# Altium integrated library Linear Technology Power Management Switching Regulator LTC1174-LTC3901.IntLib: 2647 symbols (part 264 of 364)
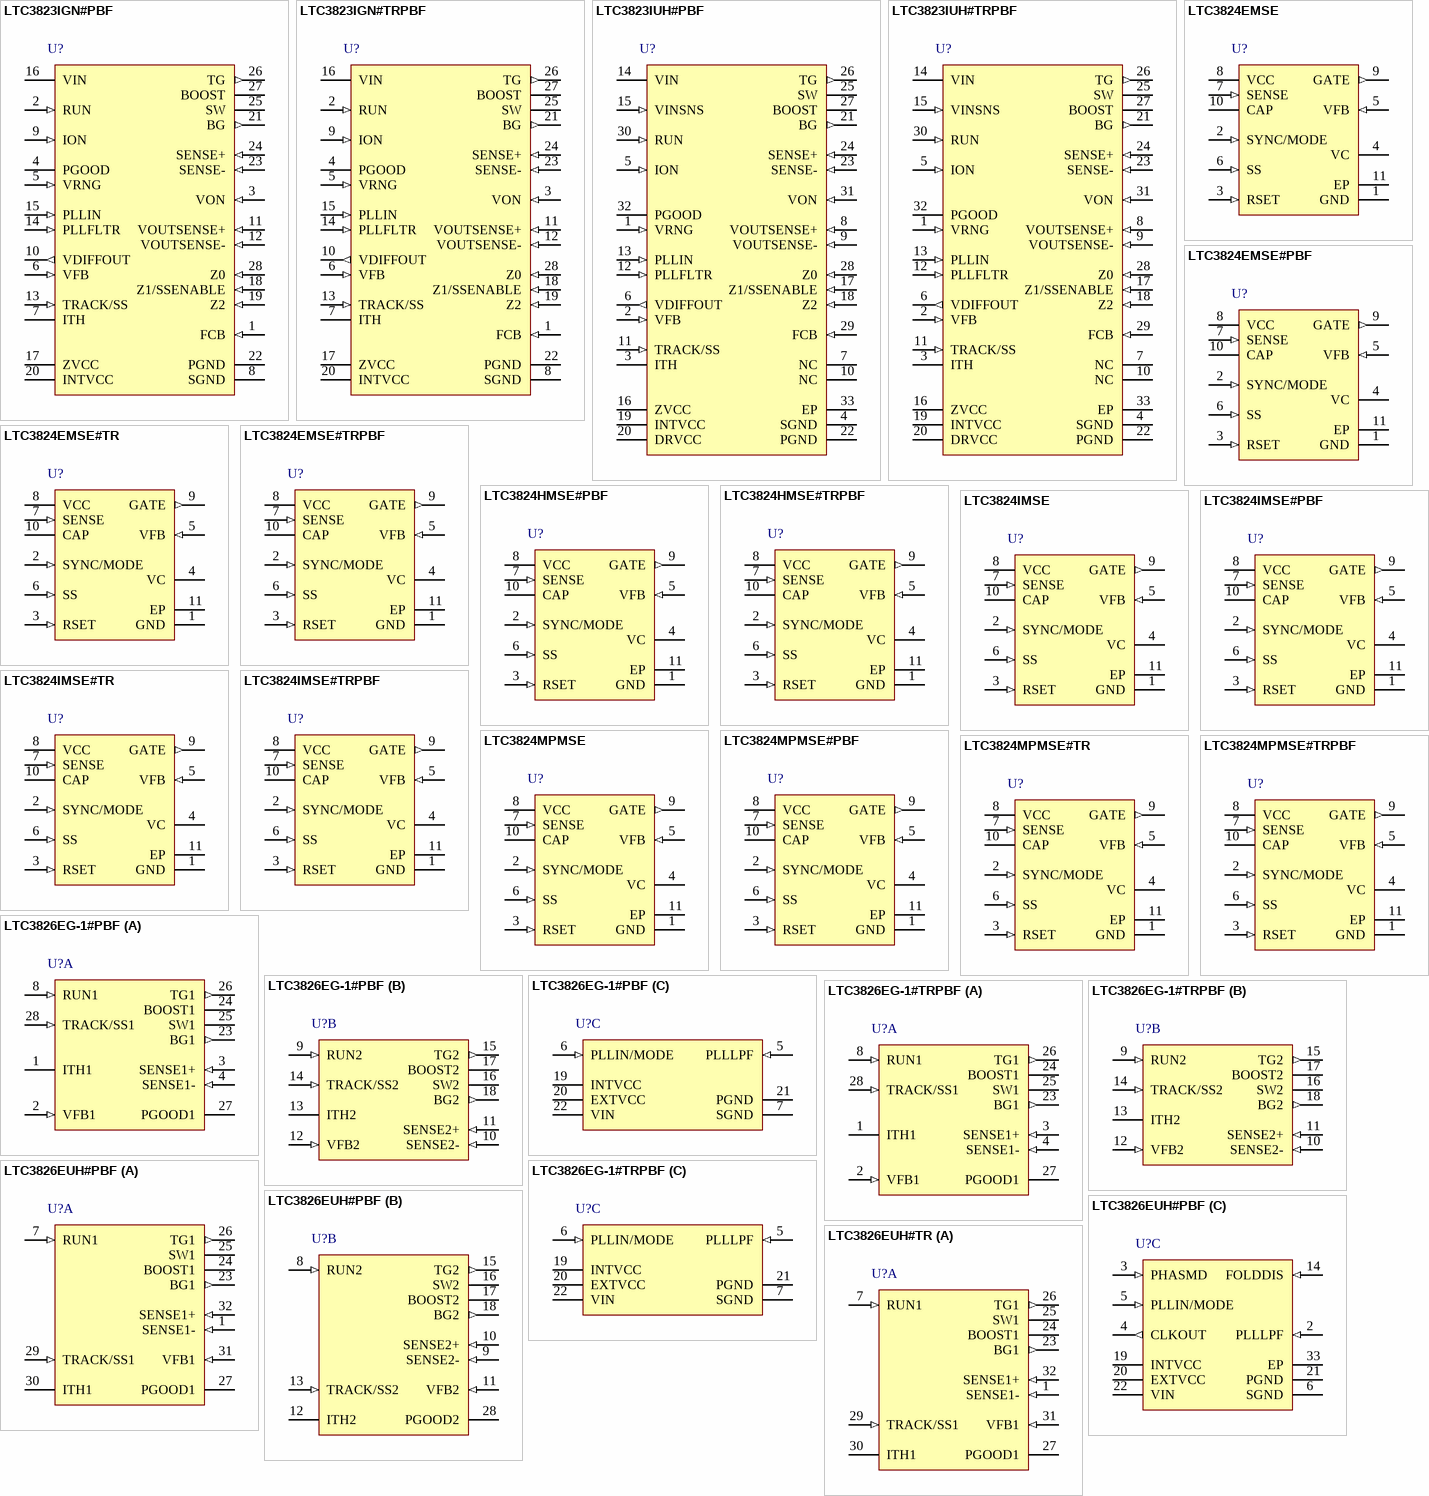
[diagram p351: symbols LTC3823IGN#PBF to LTC3826EUH#TR]

## LTC3824EMSE#TRPBF
designator U?
High Voltage Step-Down Controller with 40 uA Quiescent Current, 10-pin SOP (MSE-10-EDP), -40 to 125 degC, Pb-Free, Tape and Reel; Manufacturer: Linear Technology; PartNumber: LTC3824EMSE#TRPBF; Frequency Sync Range: 200kHz - 600kHz; Number of Outputs: 1; DatasheetVersion: Rev. G; PackageVersion: Rev. I, 05/2013; PackageReference: MSE-10; PackageDescription: 10-Pin Plastic MSOP, Exposed Die Pad, Body 3 x 3 mm, Pitch 0.5 mm; Supplier 1: Digi-Key; Supplier Part Number 1: LTC3824EMSE#TRPBFTR-ND; Supplier 2: Digi-Key; Supplier Part Number 2: LTC3824EMSE#TRPBFCT-ND; Supplier 3: Digi-Key; Supplier Part Number 3: LTC3824EMSE#TRPBFDKR-ND; Supplier 4: Newark; Supplier Part Number 4: 56M8527; Packing: Tape and Reel; RoHS: TRUE; Mounting Technology: Surface Mount; ComponentLink1Description: Manufacturer URL; ComponentLink1URL: http://www.linear.com/; ComponentLink2Description: Datasheet; ComponentLink2URL: http://cds.linear.com/docs/en/datasheet/3824fg.pdf; ComponentLink3Description: Package Specification; ComponentLink3URL: http://cds.linear.com/docs/en/packaging/05081664_I_MSE.pdf
footprint LT-MSE-10-EDP_N (SOP, 10-Leads, Body 3.1x3.1mm, Pitch 0.5mm, Thermal Pad 1.88x1.68mm, IPC Medium Density)
footprint LT-MSE-10-EDP_L (SOP, 10-Leads, Body 3.1x3.1mm, Pitch 0.5mm, Thermal Pad 1.88x1.68mm, IPC High Density)
footprint LT-MSE-10-EDP_M (SOP, 10-Leads, Body 3.1x3.1mm, Pitch 0.5mm, Thermal Pad 1.88x1.68mm, IPC Low Density)
pins: 1 GND (power) "Chip Ground Pin.", 2 SYNC/MODE (in) "Synchronization Input and Burst Mode Operation Enable/Disable. If this pin is left open or pulled higher than 2V, Burst Mode operation will be enabled at light load and the typical threshold of entering Burst Mode operation (See Datasheet)", 3 RSET (in) "A resistor from RSET to ground sets the LTC3824 switching frequency.", 4 VC "The Output of the voltage error amplifier gm and the control signal of the current mode PWM control loop. Switching starts at 0.7V, and higher VC corresponds to higher inductor current. When VC is pulled below 25mV, the (See Datasheet)", 5 VFB (in) "Error Amplifier Inverting Input. A resistor divider to this pin sets the output voltage. When VFB is less than 0.5V, the switching frequency will fold back to 50kHz to reduce the minimum on-cycle.", 6 SS (in) "Soft-Start Pin. A capacitor on this pin sets the output ramp-up rate. The typical time for SS to reach the programmed level is (C • 0.8V)/5uA.", 7 SENSE (in) "Current Sense Input Pin. A sense resistor, RS, from VIN to SENSE sets the current limit to 100mV/RS.", 8 VCC (power) "Chip Power Supply. Power supply bypassing is required.", 9 GATE (out) "Gate Drive for The External P-channel MOSFET. Typical peak drive current is 2.5A and the drive voltage is clamped to 8V when VCC is higher than 9V.", 10 CAP "A Low ESR Capacitor of at Least 0.1uF is required from this pin to VCC to bypass the internal regulator for biasing the gate driver circuitry.", 11 EP (power) "Ground. Must be soldered to PCB with expanded metal trace for rated thermal performance."

## LTC3824HMSE#PBF
designator U?
High Voltage Step-Down Controller with 40 uA Quiescent Current, 10-pin SOP (MSE-10-EDP), -40 to 150 degC, Pb-Free; Manufacturer: Linear Technology; PartNumber: LTC3824HMSE#PBF; Frequency Sync Range: 200kHz - 600kHz; Number of Outputs: 1; DatasheetVersion: Rev. G; PackageVersion: Rev. I, 05/2013; PackageReference: MSE-10; PackageDescription: 10-Pin Plastic MSOP, Exposed Die Pad, Body 3 x 3 mm, Pitch 0.5 mm; Supplier 1: Digi-Key; Supplier Part Number 1: LTC3824HMSE#PBF-ND; Supplier 2: Newark; Supplier Part Number 2: 05R7678; RoHS: TRUE; Mounting Technology: Surface Mount; ComponentLink1Description: Manufacturer URL; ComponentLink1URL: http://www.linear.com/; ComponentLink2Description: Datasheet; ComponentLink2URL: http://cds.linear.com/docs/en/datasheet/3824fg.pdf; ComponentLink3Description: Package Specification; ComponentLink3URL: http://cds.linear.com/docs/en/packaging/05081664_I_MSE.pdf
footprint LT-MSE-10-EDP_N (SOP, 10-Leads, Body 3.1x3.1mm, Pitch 0.5mm, Thermal Pad 1.88x1.68mm, IPC Medium Density)
footprint LT-MSE-10-EDP_L (SOP, 10-Leads, Body 3.1x3.1mm, Pitch 0.5mm, Thermal Pad 1.88x1.68mm, IPC High Density)
footprint LT-MSE-10-EDP_M (SOP, 10-Leads, Body 3.1x3.1mm, Pitch 0.5mm, Thermal Pad 1.88x1.68mm, IPC Low Density)
pins: 1 GND (power) "Chip Ground Pin.", 2 SYNC/MODE (in) "Synchronization Input and Burst Mode Operation Enable/Disable. If this pin is left open or pulled higher than 2V, Burst Mode operation will be enabled at light load and the typical threshold of entering Burst Mode operation (See Datasheet)", 3 RSET (in) "A resistor from RSET to ground sets the LTC3824 switching frequency.", 4 VC "The Output of the voltage error amplifier gm and the control signal of the current mode PWM control loop. Switching starts at 0.7V, and higher VC corresponds to higher inductor current. When VC is pulled below 25mV, the (See Datasheet)", 5 VFB (in) "Error Amplifier Inverting Input. A resistor divider to this pin sets the output voltage. When VFB is less than 0.5V, the switching frequency will fold back to 50kHz to reduce the minimum on-cycle.", 6 SS (in) "Soft-Start Pin. A capacitor on this pin sets the output ramp-up rate. The typical time for SS to reach the programmed level is (C • 0.8V)/5uA.", 7 SENSE (in) "Current Sense Input Pin. A sense resistor, RS, from VIN to SENSE sets the current limit to 100mV/RS.", 8 VCC (power) "Chip Power Supply. Power supply bypassing is required.", 9 GATE (out) "Gate Drive for The External P-channel MOSFET. Typical peak drive current is 2.5A and the drive voltage is clamped to 8V when VCC is higher than 9V.", 10 CAP "A Low ESR Capacitor of at Least 0.1uF is required from this pin to VCC to bypass the internal regulator for biasing the gate driver circuitry.", 11 EP (power) "Ground. Must be soldered to PCB with expanded metal trace for rated thermal performance."

## LTC3824HMSE#TRPBF
designator U?
High Voltage Step-Down Controller with 40 uA Quiescent Current, 10-pin SOP (MSE-10-EDP), -40 to 150 degC, Pb-Free, Tape and Reel; Manufacturer: Linear Technology; PartNumber: LTC3824HMSE#TRPBF; Frequency Sync Range: 200kHz - 600kHz; Number of Outputs: 1; DatasheetVersion: Rev. G; PackageVersion: Rev. I, 05/2013; PackageReference: MSE-10; PackageDescription: 10-Pin Plastic MSOP, Exposed Die Pad, Body 3 x 3 mm, Pitch 0.5 mm; Supplier 1: Digi-Key; Supplier Part Number 1: LTC3824HMSE#TRPBF-ND; Supplier 2: Newark; Supplier Part Number 2: 05R7679; Packing: Tape and Reel; RoHS: TRUE; Mounting Technology: Surface Mount; ComponentLink1Description: Manufacturer URL; ComponentLink1URL: http://www.linear.com/; ComponentLink2Description: Datasheet; ComponentLink2URL: http://cds.linear.com/docs/en/datasheet/3824fg.pdf; ComponentLink3Description: Package Specification; ComponentLink3URL: http://cds.linear.com/docs/en/packaging/05081664_I_MSE.pdf
footprint LT-MSE-10-EDP_N (SOP, 10-Leads, Body 3.1x3.1mm, Pitch 0.5mm, Thermal Pad 1.88x1.68mm, IPC Medium Density)
footprint LT-MSE-10-EDP_L (SOP, 10-Leads, Body 3.1x3.1mm, Pitch 0.5mm, Thermal Pad 1.88x1.68mm, IPC High Density)
footprint LT-MSE-10-EDP_M (SOP, 10-Leads, Body 3.1x3.1mm, Pitch 0.5mm, Thermal Pad 1.88x1.68mm, IPC Low Density)
pins: 1 GND (power) "Chip Ground Pin.", 2 SYNC/MODE (in) "Synchronization Input and Burst Mode Operation Enable/Disable. If this pin is left open or pulled higher than 2V, Burst Mode operation will be enabled at light load and the typical threshold of entering Burst Mode operation (See Datasheet)", 3 RSET (in) "A resistor from RSET to ground sets the LTC3824 switching frequency.", 4 VC "The Output of the voltage error amplifier gm and the control signal of the current mode PWM control loop. Switching starts at 0.7V, and higher VC corresponds to higher inductor current. When VC is pulled below 25mV, the (See Datasheet)", 5 VFB (in) "Error Amplifier Inverting Input. A resistor divider to this pin sets the output voltage. When VFB is less than 0.5V, the switching frequency will fold back to 50kHz to reduce the minimum on-cycle.", 6 SS (in) "Soft-Start Pin. A capacitor on this pin sets the output ramp-up rate. The typical time for SS to reach the programmed level is (C • 0.8V)/5uA.", 7 SENSE (in) "Current Sense Input Pin. A sense resistor, RS, from VIN to SENSE sets the current limit to 100mV/RS.", 8 VCC (power) "Chip Power Supply. Power supply bypassing is required.", 9 GATE (out) "Gate Drive for The External P-channel MOSFET. Typical peak drive current is 2.5A and the drive voltage is clamped to 8V when VCC is higher than 9V.", 10 CAP "A Low ESR Capacitor of at Least 0.1uF is required from this pin to VCC to bypass the internal regulator for biasing the gate driver circuitry.", 11 EP (power) "Ground. Must be soldered to PCB with expanded metal trace for rated thermal performance."